# EAGLE library part D151803-HEADER (library tccs_reader)
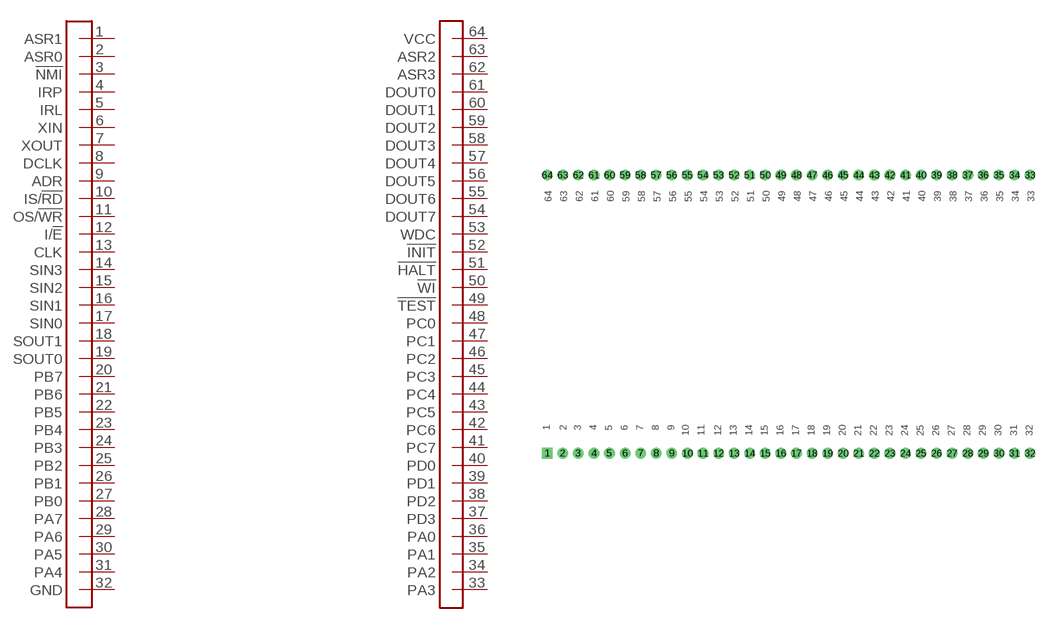
[diagram p0: symbol with the pads of SDIP-64-HEADER; footprint SDIP-64-HEADER]

Designator prefix U

## D151803-HEADER  [SDIP-64-HEADER]
1  ASR1
2  ASR0
3  !NMI
4  IRP
5  IRL
6  XIN
7  XOUT
8  DCLK
9  ADR
10  IS/!RD
11  OS/!WR
12  I/!E
13  CLK
14  SIN3
15  SIN2
16  SIN1
17  SIN0
18  SOUT1
19  SOUT0
20  PB7
21  PB6
22  PB5
23  PB4
24  PB3
25  PB2
26  PB1
27  PB0
28  PA7
29  PA6
30  PA5
31  PA4
32  GND
33  PA3
34  PA2
35  PA1
36  PA0
37  PD3
38  PD2
39  PD1
40  PD0
41  PC7
42  PC6
43  PC5
44  PC4
45  PC3
46  PC2
47  PC1
48  PC0
49  !TEST
50  !WI
51  !HALT
52  !INIT
53  WDC
54  DOUT7
55  DOUT6
56  DOUT5
57  DOUT4
58  DOUT3
59  DOUT2
60  DOUT1
61  DOUT0
62  ASR3
63  ASR2
64  VCC

## Footprint SDIP-64-HEADER (pad centres in mm)
drill 0.711 square: 1 -27.559,-15.875
drill 0.711 round: 2 -25.781,-15.875; 3 -24.003,-15.875; 4 -22.225,-15.875; 5 -20.447,-15.875; 6 -18.669,-15.875; 7 -16.891,-15.875; 8 -15.113,-15.875; 9 -13.335,-15.875; 10 -11.557,-15.875; 11 -9.779,-15.875; 12 -8.001,-15.875; 13 -6.223,-15.875; 14 -4.445,-15.875; 15 -2.667,-15.875; 16 -0.889,-15.875; 17 0.889,-15.875; 18 2.667,-15.875; 19 4.445,-15.875; 20 6.223,-15.875; 21 8.001,-15.875; 22 9.779,-15.875; 23 11.557,-15.875; 24 13.335,-15.875; 25 15.113,-15.875; 26 16.891,-15.875; 27 18.669,-15.875; 28 20.447,-15.875; 29 22.225,-15.875; 30 24.003,-15.875; 31 25.781,-15.875; 32 27.559,-15.875; 33 27.559,15.875; 34 25.781,15.875; 35 24.003,15.875; 36 22.225,15.875; 37 20.447,15.875; 38 18.669,15.875; 39 16.891,15.875; 40 15.113,15.875; 41 13.335,15.875; 42 11.557,15.875; 43 9.779,15.875; 44 8.001,15.875; 45 6.223,15.875; 46 4.445,15.875; 47 2.667,15.875; 48 0.889,15.875; 49 -0.889,15.875; 50 -2.667,15.875; 51 -4.445,15.875; 52 -6.223,15.875; 53 -8.001,15.875; 54 -9.779,15.875; 55 -11.557,15.875; 56 -13.335,15.875; 57 -15.113,15.875; 58 -16.891,15.875; 59 -18.669,15.875; 60 -20.447,15.875; 61 -22.225,15.875; 62 -24.003,15.875; 63 -25.781,15.875; 64 -27.559,15.875